# Altium schematic symbol library SnapEDAsch.SchLib: 1 symbol
Pins are listed as number, name and electrical type; pins without a type are passive.

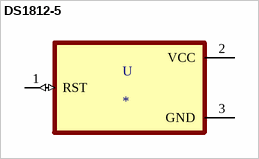
[diagram p0: symbol DS1812-5]

## DS1812-5
designator U
Supervisor Push-Pull, Totem Pole 1 Channel TO-92-3; MF: Maxim Integrated; MP: DS1812-5+; Value: *; Package: TO92-3 Maxim; Price: None; Availability: Unavailable; SnapEDA_Link: https://www.snapeda.com/parts/DS1812-5%2B/Maxim%20Integrated/view-part/1159029/?ref=snap
footprint TO92127P495H695-3
pins: 1 RST (io), 2 VCC (power), 3 GND (power)